# EAGLE library part TC446 (library Microchip-TC44xx)
IC, MOSFET DRIVER, LOW-SIDE,DIP-14
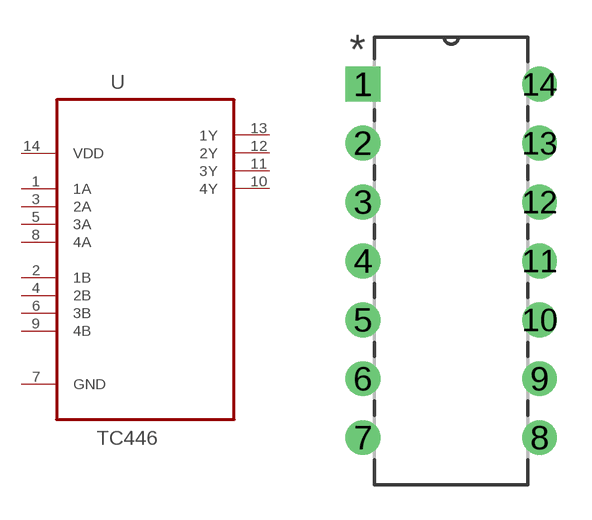
[diagram p1: symbol with the pads of DIP254P762X432-14; footprint DIP254P762X432-14]

Designator prefix U

## TC4468CPD (MPN: TC4468CPD; OC_FARNELL: 1557406; OC_NEWARK: 54K2859; PACKAGE: DIP-14; SUPPLIER: MICROCHIP), TC4468EPD (MPN: TC4468EPD; OC_FARNELL: 1852211; OC_NEWARK: 68H9560; PACKAGE: DIP-14; SUPPLIER: MICROCHIP), TC4469CPD (MPN: TC4469CPD; OC_FARNELL: 1439739; OC_NEWARK: 92C6160; PACKAGE: DIP-14; SUPPLIER: MICROCHIP), TC4469EPD (MPN: TC4469EPD; OC_FARNELL: 1852212; OC_NEWARK: 68H9561; PACKAGE: DIP-14; SUPPLIER: MICROCHIP)  [DIP254P762X432-14]
1  1A  in
2  1B  in
3  2A  in
4  2B  in
5  3A  in
6  3B  in
7  GND  pas
8  4A  in
9  4B  in
10  4Y  out
11  3Y  out
12  2Y  out
13  1Y  out
14  VDD  pwr

## Footprint DIP254P762X432-14 (pad centres in mm)
drill 0.991 square: 1 -7.62,15.24
drill 0.991: 2 -7.62,12.7; 3 -7.62,10.16; 4 -7.62,7.62; 5 -7.62,5.08; 6 -7.62,2.54; 7 -7.62,0; 8 0,0; 9 0,2.54; 10 0,5.08; 11 0,7.62; 12 0,10.16; 13 0,12.7; 14 0,15.24